# EAGLE library part FE2.1-48 (library 1dah)
FE2.1 USB 2.0 7-port hub chip in TQFP-48 pkg. Gangs power control monitoring into ports 1-4 and 5-7 on OVCJ1 and 5 respectively. PWRJ controls all downstream ports. Lower power consumption than SCMC chips and lower cost.
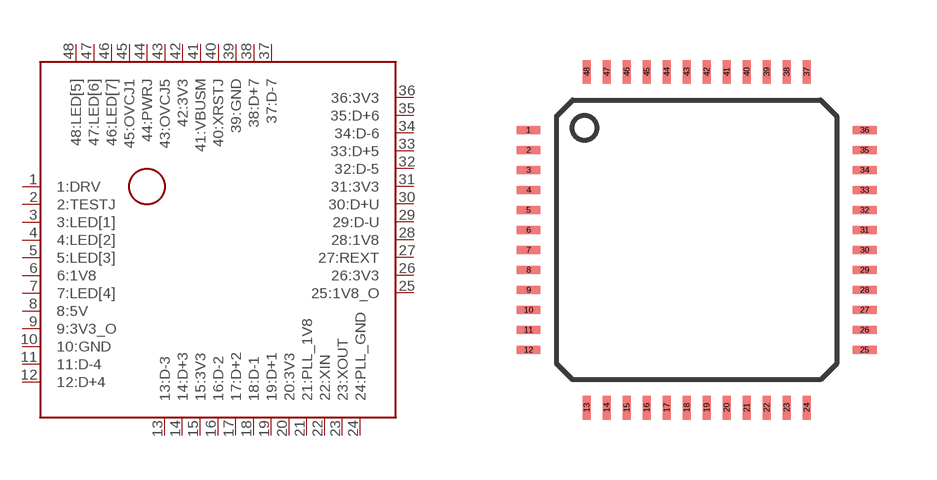
[diagram p65: symbol with the pads of LQFP-48; footprint LQFP-48]

Designator prefix -

## FE2.1-48  [LQFP-48]
1  1:DRV
2  2:TESTJ
3  3:LED[1]
4  4:LED[2]
5  5:LED[3]
6  6:1V8
7  7:LED[4]
8  8:5V
9  9:3V3_O
10  10:GND
11  11:D-4
12  12:D+4
13  13:D-3
14  14:D+3
15  15:3V3
16  16:D-2
17  17:D+2
18  18:D-1
19  19:D+1
20  20:3V3
21  21:PLL_1V8
22  22:XIN
23  23:XOUT
24  24:PLL_GND
25  25:1V8_O
26  26:3V3
27  27:REXT
28  28:1V8
29  29:D-U
30  30:D+U
31  31:3V3
32  32:D-5
33  33:D+5
34  34:D-6
35  35:D+6
36  36:3V3
37  37:D-7
38  38:D+7
39  39:GND
40  40:XRSTJ
41  41:VBUSM
42  42:3V3
43  43:OVCJ5
44  44:PWRJ
45  45:OVCJ1
46  46:LED[7]
47  47:LED[6]
48  48:LED[5]

## Footprint LQFP-48 (pad centres in mm)
smd 0.6 x 0.2: 1 -4.2,2.75; 2 -4.2,2.25; 3 -4.2,1.75; 4 -4.2,1.25; 5 -4.2,0.75; 6 -4.2,0.25; 7 -4.2,-0.25; 8 -4.2,-0.75; 9 -4.2,-1.25; 10 -4.2,-1.75; 11 -4.2,-2.25; 12 -4.2,-2.75; 25 4.2,-2.75; 26 4.2,-2.25; 27 4.2,-1.75; 28 4.2,-1.25; 29 4.2,-0.75; 30 4.2,-0.25; 31 4.2,0.25; 32 4.2,0.75; 33 4.2,1.25; 34 4.2,1.75; 35 4.2,2.25; 36 4.2,2.75
smd 0.2 x 0.6: 13 -2.75,-4.2; 14 -2.25,-4.2; 15 -1.75,-4.2; 16 -1.25,-4.2; 17 -0.75,-4.2; 18 -0.25,-4.2; 19 0.25,-4.2; 20 0.75,-4.2; 21 1.25,-4.2; 22 1.75,-4.2; 23 2.25,-4.2; 24 2.75,-4.2; 37 2.75,4.2; 38 2.25,4.2; 39 1.75,4.2; 40 1.25,4.2; 41 0.75,4.2; 42 0.25,4.2; 43 -0.25,4.2; 44 -0.75,4.2; 45 -1.25,4.2; 46 -1.75,4.2; 47 -2.25,4.2; 48 -2.75,4.2